# Altium schematic symbol library Schlib1.1.SchLib: 27 symbols
Pins are listed as number, name and electrical type; pins without a type are passive.

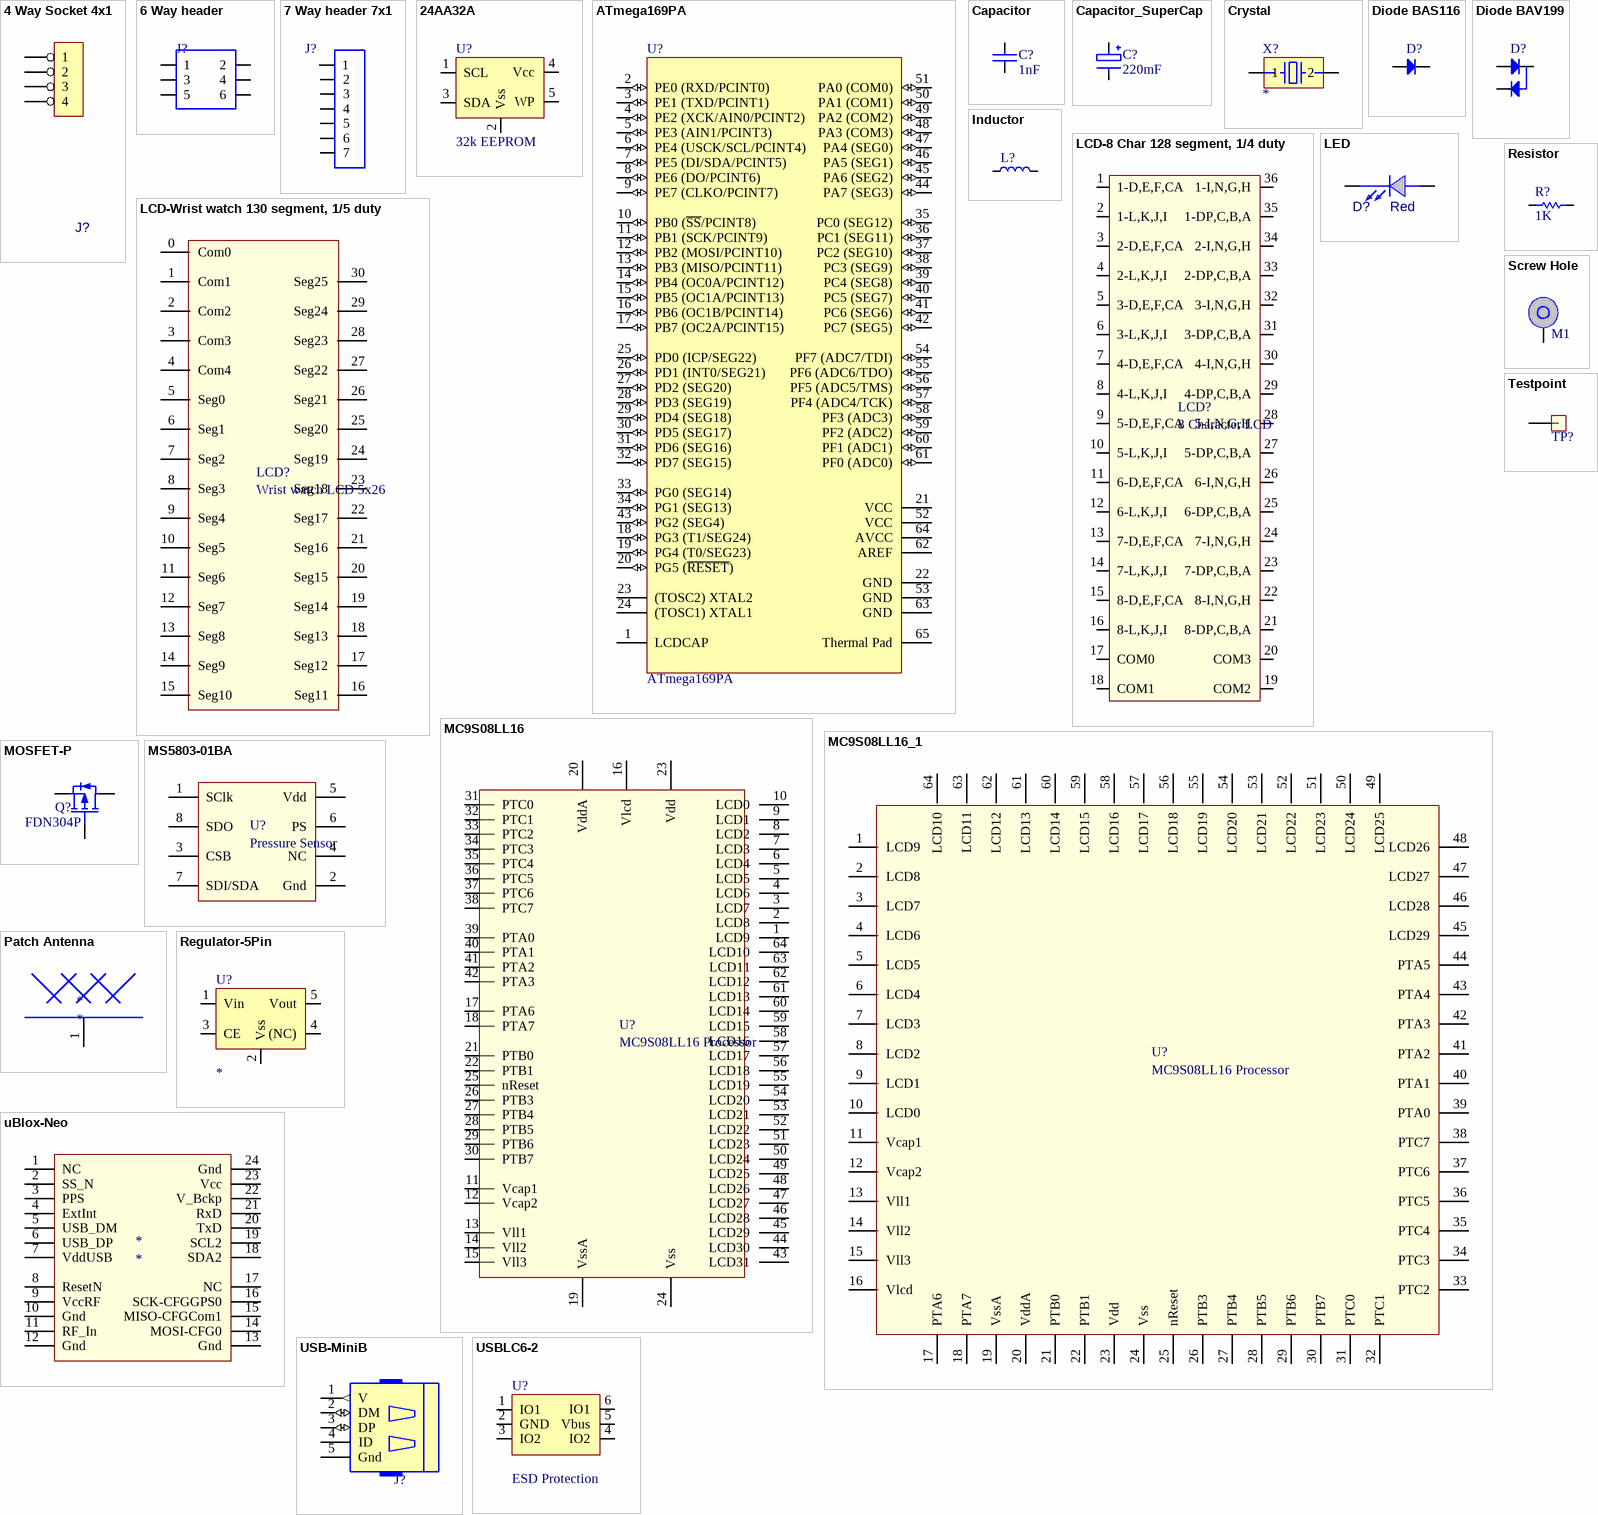
[diagram p0: symbols 4 Way Socket 4x1 to USBLC6-2]

## 4 Way Socket 4x1
designator J?, comment Socket 4x1  (value not drawn)
Socket; Part Field 2: Samtec; Part Field 3: CLP-110-02-G-D-A; RoHS: Y
footprint HDR2X10-1.27mm - SMD - Mirror
pins: 1, 2, 3, 4

## 6 Way header
designator J?, comment SPI Header  (value not drawn)
footprint HDR3X2-2.54 (Connector; Header; 6 Position)
pins: 1, 2, 3, 4, 5, 6

## 7 Way header 7x1
designator J?, comment SPI Header  (value not drawn)
footprint HDR7X1-2.54 (Connector; Header; 7 Position 1 row)
pins: 1, 2, 3, 4, 5, 6, 7

## 24AA32A
designator U?, comment 32k EEPROM
24AA32A
footprint Sot23-5 (Sot23-5L For Maxim, body 1.6 wide, pitch 0.95mm. 15th space between pads.)
pins: 1 SCL, 2 Vss, 3 SDA, 4 Vcc, 5 WP

## ATmega169PA
designator U?
8-Bit AVR Microcontroller with 16K Bytes of In-System Programmable Flash Memory; Published: 26-May-2004; LatestRevisionDate: 13-Apr-2006; LatestRevisionNote: IPC-7351 Footprint Added.; DatasheetVersion: 2514C-AVR-11/02; PackageVersion: revB, Aug-2001; PackageReference: 64M1; Publisher: Altium Limited; PackageDescription: 64-Pin Quad Flat No-Lead 0.5 mm Pitch; Code_JEDEC: MO-220-VMMD; ComponentLink1Description: Manufacturer Link; ComponentLink1URL: http://www.atmel.com; ComponentLink2Description: Datasheet; ComponentLink2URL: http://www.atmel.com/dyn/resources/prod_documents/doc2514.pdf
footprint ATmega169-64M1 (QFN, 64-Leads, Body 9x9mm, Pitch 0.5mm, IPC High Density)
footprint ATmega169-64M1 - mod (QFN, 64-Leads, Body 9x9mm, Pitch 0.5mm, IPC High Density)
pins: 1 LCDCAP, 2 PE0 (RXD/PCINT0) (io), 3 PE1 (TXD/PCINT1) (io), 4 PE2 (XCK/AIN0/PCINT2) (io), 5 PE3 (AIN1/PCINT3) (io), 6 PE4 (USCK/SCL/PCINT4) (io), 7 PE5 (DI/SDA/PCINT5) (io), 8 PE6 (DO/PCINT6) (io), 9 PE7 (CLKO/PCINT7) (io), 10 PB0 (~{SS}/PCINT8) (io), 11 PB1 (SCK/PCINT9) (io), 12 PB2 (MOSI/PCINT10) (io), 13 PB3 (MISO/PCINT11) (io), 14 PB4 (OC0A/PCINT12) (io), 15 PB5 (OC1A/PCINT13) (io), 16 PB6 (OC1B/PCINT14) (io), 17 PB7 (OC2A/PCINT15) (io), 18 PG3 (T1/SEG24) (io), 19 PG4 (T0/SEG23) (io), 20 PG5 (~{RESET}) (io), 21 VCC (power), 22 GND (power), 23 (TOSC2) XTAL2, 24 (TOSC1) XTAL1, 25 PD0 (ICP/SEG22) (io), 26 PD1 (INT0/SEG21) (io), 27 PD2 (SEG20) (io), 28 PD3 (SEG19) (io), 29 PD4 (SEG18) (io), 30 PD5 (SEG17) (io), 31 PD6 (SEG16) (io), 32 PD7 (SEG15) (io), 33 PG0 (SEG14) (io), 34 PG1 (SEG13) (io), 35 PC0 (SEG12) (io), 36 PC1 (SEG11) (io), 37 PC2 (SEG10) (io), 38 PC3 (SEG9) (io), 39 PC4 (SEG8) (io), 40 PC5 (SEG7) (io), 41 PC6 (SEG6) (io), 42 PC7 (SEG5) (io), 43 PG2 (SEG4) (io), 44 PA7 (SEG3) (io), 45 PA6 (SEG2) (io), 46 PA5 (SEG1) (io), 47 PA4 (SEG0) (io), 48 PA3 (COM3) (io), 49 PA2 (COM2) (io), 50 PA1 (COM1) (io), 51 PA0 (COM0) (io), 52 VCC (power), 53 GND (power), 54 PF7 (ADC7/TDI) (io), 55 PF6 (ADC6/TDO) (io), 56 PF5 (ADC5/TMS) (io), 57 PF4 (ADC4/TCK) (io), 58 PF3 (ADC3) (io), 59 PF2 (ADC2) (io), 60 PF1 (ADC1) (io), 61 PF0 (ADC0) (io), 62 AREF, 63 GND (power), 64 AVCC (power), 65 Thermal Pad (power)

## Capacitor
designator C?  value 1nF
Capacitor (Semiconductor SIM Model); Voltage rating: *
simulation model CAP (Semiconductor Capacitor)
signal-integrity model Cap Semi
footprint 0402 (Chip Capacitor; Body 1.0 x 0.5 mm (LxW typ))
footprint 0603 (Chip Capacitor; Body 1.6 x 0.8 mm (LxW typ))
footprint 0805 (Chip Capacitor; Body 2.0 x 1.2 mm (LxW typ))
footprint 0201 (Chip Capacitor; Body 0.5 x 0.25 mm (LxW typ))
pins: 1, 2

## Capacitor_SuperCap
designator C?  value 220mF  (hidden comment: Capacitor_SuperCap)
SuperCap; Voltage rating: *
simulation model CAP (Semiconductor Capacitor)
signal-integrity model Cap Semi
footprint Supercap-6.8mm (Elna Supercap or equivelant)
pins: 1, 2

## Crystal
designator X?
32.768 kHz  Crystal
footprint CM415 Crystal (32.768 kHz Citizen Crystal)
footprint FC135 Crystal (Footprint not found)
pins: 1, 2

## Diode BAS116
designator D?
Silicon Low Leakage Diode; Note: Pin 2 is not connected and not drawn.; Published: 21-Mar-2003; DatasheetDocument: Oct-1999; PackageDocument: Sep-2001; PackageReference: SOT-23; Publisher: Altium Limited
simulation model BAS116 (DIODE)
footprint SOT23-3 (SOT-23; 3 Leads; Body 3.0 x 2.6 mm, inc. leads (LxW max))
pins: 1 A, 3 K

## Diode BAV199
designator D?
Silicon Low Leakage Diode; Note: Pin 2 is not connected and not drawn.; DatasheetDocument: Oct-1999; PackageDocument: Sep-2001; PackageReference: SOT-23
simulation model BAS116 (DIODE)
footprint SOT23-3 (SOT-23; 3 Leads; Body 3.0 x 2.6 mm, inc. leads (LxW max))
pins: 1 A1, 2 K2, 3 K1A2

## Inductor
designator L?  (value not drawn)
Value: 1uH
simulation model INDUCTOR (Inductor)
signal-integrity model Inductor
footprint 0805 (Chip Capacitor; Body 2.0 x 1.2 mm (LxW typ))
footprint 0603 (Chip Capacitor; Body 1.6 x 0.8 mm (LxW typ))
footprint 0402 (Chip Capacitor; Body 1.0 x 0.5 mm (LxW typ))
footprint 0402 - smaller (Chip Capacitor; Body 1.0 x 0.5 mm (LxW typ))
pins: 1, 2

## LCD-8 Char 128 segment, 1/4 duty
designator LCD?, comment 8 Character LCD
footprint LCD-36 Pin 18x52mm (8 Character LCD 1/4 bias)
pins: 1 1-D,E,F,CA, 2 1-L,K,J,I, 3 2-D,E,F,CA, 4 2-L,K,J,I, 5 3-D,E,F,CA, 6 3-L,K,J,I, 7 4-D,E,F,CA, 8 4-L,K,J,I, 9 5-D,E,F,CA, 10 5-L,K,J,I, 11 6-D,E,F,CA, 12 6-L,K,J,I, 13 7-D,E,F,CA, 14 7-L,K,J,I, 15 8-D,E,F,CA, 16 8-L,K,J,I, 17 COM0, 18 COM1, 19 COM2, 20 COM3, 21 8-DP,C,B,A, 22 8-I,N,G,H, 23 7-DP,C,B,A, 24 7-I,N,G,H, 25 6-DP,C,B,A, 26 6-I,N,G,H, 27 5-DP,C,B,A, 28 5-I,N,G,H, 29 4-DP,C,B,A, 30 4-I,N,G,H, 31 3-DP,C,B,A, 32 3-I,N,G,H, 33 2-DP,C,B,A, 34 2-I,N,G,H, 35 1-DP,C,B,A, 36 1-I,N,G,H

## LCD-Wrist watch 130 segment, 1/5 duty
designator LCD?, comment Wrist watch LCD 5x26
footprint LCD-31 Pin (LCD Wristwatch 5x26)
pins: 0 Com0, 1 Com1, 2 Com2, 3 Com3, 4 Com4, 5 Seg0, 6 Seg1, 7 Seg2, 8 Seg3, 9 Seg4, 10 Seg5, 11 Seg6, 12 Seg7, 13 Seg8, 14 Seg9, 15 Seg10, 16 Seg11, 17 Seg12, 18 Seg13, 19 Seg14, 20 Seg15, 21 Seg16, 22 Seg17, 23 Seg18, 24 Seg19, 25 Seg20, 26 Seg21, 27 Seg22, 28 Seg23, 29 Seg24, 30 Seg25

## LED
designator D?, comment Red
Part Field 3: 160-1421-1-ND; Part Field 2: Digikey; RoHS: Y
footprint 0603 - LED (LED Body 1.6 x 0.8 mm (LxW typ))
pins: 1 ANODE, 2 CATHODE

## MC9S08LL16
designator U?, comment MC9S08LL16 Processor
Freescale MC9S08LL16 Processor
footprint LQFP64 (Thin QFP, 64-Leads, Body 10x10mm, Pitch 0.5mm, IPC High Density)
pins: 1 LCD9, 2 LCD8, 3 LCD7, 4 LCD6, 5 LCD5, 6 LCD4, 7 LCD3, 8 LCD2, 9 LCD1, 10 LCD0, 11 Vcap1, 12 Vcap2, 13 Vll1, 14 Vll2, 15 Vll3, 16 Vlcd, 17 PTA6, 18 PTA7, 19 VssA, 20 VddA, 21 PTB0, 22 PTB1, 23 Vdd, 24 Vss, 25 nReset, 26 PTB3, 27 PTB4, 28 PTB5, 29 PTB6, 30 PTB7, 31 PTC0, 32 PTC1, 33 PTC2, 34 PTC3, 35 PTC4, 36 PTC5, 37 PTC6, 38 PTC7, 39 PTA0, 40 PTA1, 41 PTA2, 42 PTA3, 43 LCD31, 44 LCD30, 45 LCD29, 46 LCD28, 47 LCD27, 48 LCD26, 49 LCD25, 50 LCD24, 51 LCD23, 52 LCD22, 53 LCD21, 54 LCD20, 55 LCD19, 56 LCD18, 57 LCD17, 58 LCD16, 59 LCD15, 60 LCD14, 61 LCD13, 62 LCD12, 63 LCD11, 64 LCD10

## MC9S08LL16_1
designator U?, comment MC9S08LL16 Processor
Freescale MC9S08LL16 Processor
pins: 1 LCD9, 2 LCD8, 3 LCD7, 4 LCD6, 5 LCD5, 6 LCD4, 7 LCD3, 8 LCD2, 9 LCD1, 10 LCD0, 11 Vcap1, 12 Vcap2, 13 Vll1, 14 Vll2, 15 Vll3, 16 Vlcd, 17 PTA6, 18 PTA7, 19 VssA, 20 VddA, 21 PTB0, 22 PTB1, 23 Vdd, 24 Vss, 25 nReset, 26 PTB3, 27 PTB4, 28 PTB5, 29 PTB6, 30 PTB7, 31 PTC0, 32 PTC1, 33 PTC2, 34 PTC3, 35 PTC4, 36 PTC5, 37 PTC6, 38 PTC7, 39 PTA0, 40 PTA1, 41 PTA2, 42 PTA3, 43 PTA4, 44 PTA5, 45 LCD29, 46 LCD28, 47 LCD27, 48 LCD26, 49 LCD25, 50 LCD24, 51 LCD23, 52 LCD22, 53 LCD21, 54 LCD20, 55 LCD19, 56 LCD18, 57 LCD17, 58 LCD16, 59 LCD15, 60 LCD14, 61 LCD13, 62 LCD12, 63 LCD11, 64 LCD10

## MOSFET-P
designator Q?, comment FDN304P
=Desc; PartNo: Fairchild: FDN304P; OldItemCode: IC0027; Pkg: SOT23-3; Comp: Transistor; Desc: Transistor FDN304P MOSFET P-Channel 460mW 20V SOT23-3; ItemCode: E215-00070; Rating: 460mW; Type3: MOSFET P-Channel; Type: 20V; Part: FDN304P
simulation model PMOS (MOSFET-P)
footprint SOT23-3 (SOT-23; 3 Leads; Body 3.0 x 2.6 mm, inc. leads (LxW max))
pins: 1 G, 2 S, 3 D

## MS5803-01BA
designator U?, comment Pressure Sensor
footprint MS5803-01BA (Footprint for pressure sensor)
pins: 1 SClk, 2 Gnd, 3 CSB, 4 NC, 5 Vdd, 6 PS, 7 SDI/SDA, 8 SDO

## Patch Antenna
designator *
footprint Patch-25mm (25 mm Patch antenna, RHCP center pin location.)
pins: 1

## Regulator-5Pin
designator U?
footprint Sot23-5 (Sot23-5L For Maxim, body 1.6 wide, pitch 0.95mm. 15th space between pads.)
pins: 1 Vin, 2 Vss, 3 CE, 4 (NC), 5 Vout

## Resistor
designator R?  value 1K
Resistor
simulation model RESISTOR (Resistor)
signal-integrity model Res
footprint 0805 (Chip Capacitor; Body 2.0 x 1.2 mm (LxW typ))
footprint 0603 (Chip Capacitor; Body 1.6 x 0.8 mm (LxW typ))
footprint 0402 (Chip Capacitor; Body 1.0 x 0.5 mm (LxW typ))
footprint 0201 (Chip Capacitor; Body 0.5 x 0.25 mm (LxW typ))
pins: 1, 2

## Screw Hole
designator M1  (value not drawn)
Mount Hole; Comp: MECH
footprint MOUNT HOLE (3.2mm mount hole)
pins: 1

## Testpoint
designator TP?  (value not drawn)
footprint Testpoint - 0402 (Chip Capacitor; Body 1.0 x 0.5 mm (LxW typ))
footprint TestPoint - Large
footprint TestPoint - through hole
pins: 1

## uBlox-Neo
designator *
footprint uBlox-NEO (Footprint for uBlox NEO-5Q or similar.)
pins: 1 NC, 2 SS_N, 3 PPS, 4 ExtInt, 5 USB_DM, 6 USB_DP, 7 VddUSB, 8 ResetN, 9 VccRF, 10 Gnd, 11 RF_In, 12 Gnd, 13 Gnd, 14 MOSI-CFG0, 15 MISO-CFGCom1, 16 SCK-CFGGPS0, 17 NC, 18 SDA2, 19 SCL2, 20 TxD, 21 RxD, 22 V_Bckp, 23 Vcc, 24 Gnd

## USB-MiniB
designator J?  (value not drawn)
USB Connector
footprint Mini-USB (Suits: Hirose UX60SA-MB-5ST, TYCO 1734035-2, Molex 54819-0572)
pins: 1 V (out), 2 DM (io), 3 DP (io), 4 ID (power), 5 MT, 5 Gnd (power), 6 MT

## USBLC6-2
designator U?, comment ESD Protection
USBLC6-2
footprint Sot23-6 (Sot23-6, body 1.6 wide, pitch 0.95mm. 15th space between pads.)
pins: 1 IO1, 2 GND, 3 IO2, 4 IO2, 5 Vbus, 6 IO1

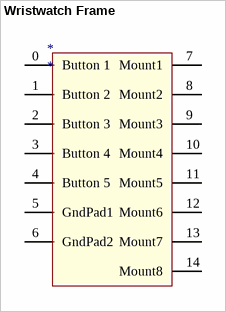
[diagram p1: symbol Wristwatch Frame]

## Wristwatch Frame
designator *
footprint Wristwatch Frame (Frame mount and buttons for wristwatch)
pins: 0 Button 1, 1 Button 2, 2 Button 3, 3 Button 4, 4 Button 5, 5 GndPad1, 6 GndPad2, 7 Mount1, 8 Mount2, 9 Mount3, 10 Mount4, 11 Mount5, 12 Mount6, 13 Mount7, 14 Mount8